# Altium footprint library HEADER-2X20.PcbLib: 1 footprints
Each footprint in its own frame and in the unit in brackets; x right, y up, seen from the top. Pads: shape width x height; smd on the part's side, far side on the other; paste and mask are expansions set on the pad; w line width, h text height; cw(c..) or ccw(c..) is an arc to the next point about the centre after c.
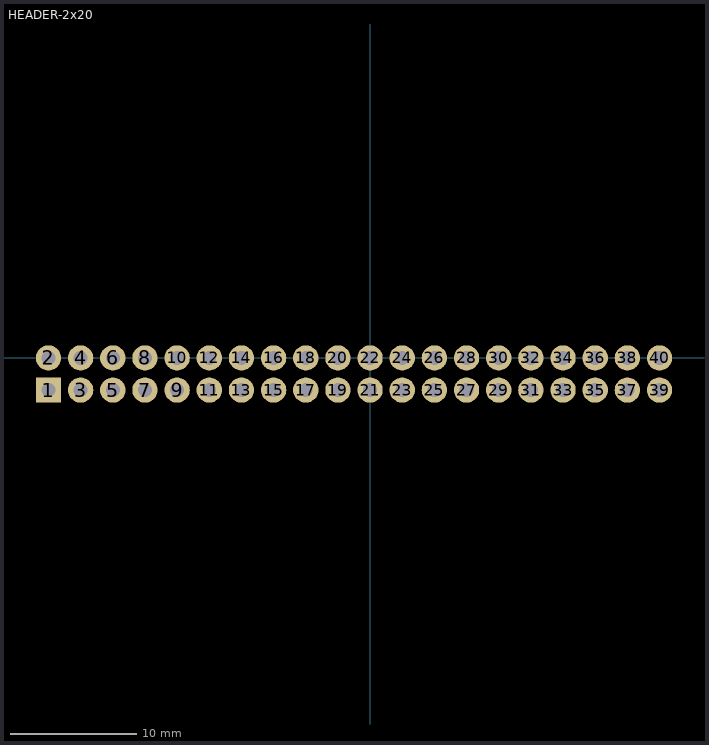
[diagram p0: the footprint, top view; thin cyan lines are the x and y axes]

## HEADER-2x20 [mm]
pads (40):
  rect 2x2 hole 1.1: 1(-25.4,-2.54)
  round 2 hole 1.1: 2(-25.4,0) 3(-22.86,-2.54) 4(-22.86,0) 5(-20.32,-2.54) 6(-20.32,0) 7(-17.78,-2.54) 8(-17.78,0) 9(-15.24,-2.54) 10(-15.24,0) 11(-12.7,-2.54) 12(-12.7,0) 13(-10.16,-2.54) 14(-10.16,0) 15(-7.62,-2.54) 16(-7.62,0) 17(-5.08,-2.54) 18(-5.08,0) 19(-2.54,-2.54) 20(-2.54,0) 21(0,-2.54) 22(0,0) 23(2.54,-2.54) 24(2.54,0) 25(5.08,-2.54) 26(5.08,0) 27(7.62,-2.54) 28(7.62,0) 29(10.16,-2.54) 30(10.16,0) 31(12.7,-2.54) 32(12.7,0) 33(15.24,-2.54) 34(15.24,0) 35(17.78,-2.54) 36(17.78,0) 37(20.32,-2.54) 38(20.32,0) 39(22.86,-2.54) 40(22.86,0)
3D body "61304021821 (rev1).stp": height 8.49, standoff -3.11, extent -26.862,-3.846 24.438,1.234